# Altium schematic symbol library JUMPER_TEST.SchLib: 7 symbols
Pins are listed as number, name and electrical type; pins without a type are passive.

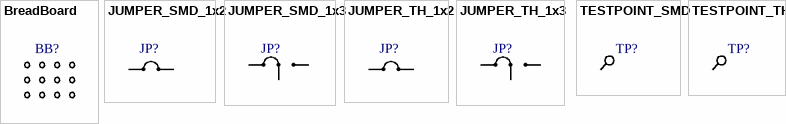
[diagram p0: symbols BreadBoard to TESTPOINT_TH]

## BreadBoard
designator BB?  (value not drawn)
BreadBoard; Value: *
footprint BreadBoard_25x51 (Small 1"x2" breadboard section)
footprint Breakout_8x2 (Small DAQ breakout for hookup to breadboard section)

## JUMPER_SMD_1x2
designator JP?  (value not drawn)
Jumper; Value: *
footprint JP_20X50 (JUMPER SOLDER 0.2X0.5MM)
footprint JP_40X50 (JUMPER SOLDER 0.4X0.5MM)
footprint JP_60X100 (JUMPER SOLDER 0.6X0.5MM)
footprint JP_100X60 (JUMPER SOLDER 1X0.6MM)
footprint JP_160X60 (JUMPER SOLDER 1.6X0.6MM)
footprint JP_200X60 (JUMPER SOLDER 2X0.6MM)
footprint JP_300X100 (JUMPER SOLDER 3X1MM)
pins: 1, 2

## JUMPER_SMD_1x3
designator JP?  (value not drawn)
Jumper; Value: *
footprint JP_3_40X90 (JUMPER SOLDER 0.4X0.9MM)
footprint JP_3_60W (JUMPER SOLDER 0.6X1.6mm)
pins: 1, 2, 3

## JUMPER_TH_1x2
designator JP?  (value not drawn)
Jumper; Value: *
footprint JP_2 (Jumper Header 2.54mm Pitch, Vertical)
footprint JP_2R (Jumper Header 2.54mm Pitch, Horizontal)
footprint JP_2_BLK (Jumper Header 2.54mm Pitch, Vertical, BLACK)
footprint JP_2_BLU (Jumper Header 2.54mm Pitch, Vertical, BLUE)
footprint JP_2_GRN (Jumper Header 2.54mm Pitch, Vertical, GREEN)
footprint JP_2_RED (Jumper Header 2.54mm Pitch, Vertical, RED)
footprint Juper 200
footprint Juper 300
footprint Juper 400
footprint Juper 500
footprint Juper 600
footprint Juper 700
footprint Juper 800
footprint JP_RES0_AX2 (JUMPER, RESISTOR 0 Ohm 1/8Watt, Axial 0.24Inch)
footprint JP_RES0_AX3 (JUMPER, RESISTOR 0 Ohm 1/8Watt, Axial0.3Inch)
footprint JP_RES0_AX4 (0 Ohm Jumper Resistor)
pins: 1, 2

## JUMPER_TH_1x3
designator JP?  (value not drawn)
Jumper; Value: *
footprint JP_3 (Jumper Header 2.54mm Pitch, 3PIN, Vertical)
pins: 1, 2, 3

## TESTPOINT_SMD
designator TP?  (value not drawn)
Testpoint; Value: *
footprint TPSMD_C1 (Test Point, SMD Pad, Circle, 1mm X 1mm)
footprint TPSMD_C60 (Test Point, SMD Pad, Circle, 0.6mm X 0.6mm)
footprint TPSMD_C80 (Test Point, SMD Pad, Circle, 0.8mm X 0.8mm)
footprint TPSMD_C120 (Test Point, SMD Pad, Circle, 1.2mm X1.2mm)
footprint TPSMD_S1 (Test Point, SMD Pad, Circle, 1mm X 1mm)
footprint TPSMD_S140 (Test Point, SMD Pad, Square, 1.4mm X1.4mm)
pins: 1

## TESTPOINT_TH
designator TP?  (value not drawn)
Testpoint; Value: *
footprint TP50D30 (TEST POINT 0.5mm WITH 0.3 mm Hole Diameter)
footprint TP60D40 (TEST POINT 0.6mm WITH 0.4 mm Hole Diameter)
footprint TP80D30 (TEST POINT 0.8mm WITH 0.3 mm Hole Diameter)
footprint TP80D50
footprint TP100D50
footprint TP150D80 (TEST POINT 1.5mm WITH 0.8 mm Hole Diameter)
footprint TPTHD_A (TEST POINT, SMALLEST SIZE)
footprint TPTHD_B_GRN (TEST POINT KEYSTONE 2.5mm WITH 1 mm Hole Diameter)
footprint TPTHD_B_WHT (TEST POINT KEYSTONE 2.5mm WITH 1 mm Hole Diameter)
footprint TPTHD_CROCODILE (TEST POINT, CROCODILE)
footprint TPTHD_CROCODILEx2 (TEST POINT, CROCODILE)
footprint TPTHD_C_BLK1 (Thru-hole test point loop, 1.6mm Hole)
footprint TPTHD_C_BLK2 (Thru-hole test point loop, 1.6mm Hole)
pins: 1